# EAGLE library part APF3236SEEZGQBDC (library bytewerk-led)
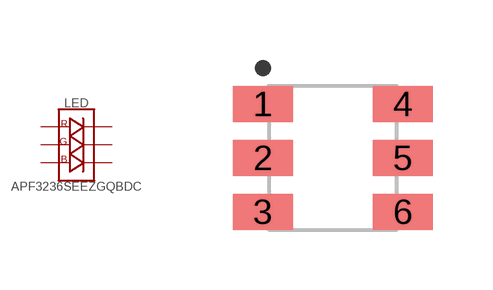
[diagram p2: symbol with the pads of APF3236SEEZGQBDC; footprint APF3236SEEZGQBDC]

Designator prefix LED

## APF3236SEEZGQBDC  [APF3236SEEZGQBDC]
1  R_C  pas
2  G_C  pas
3  B_C  pas
4  R_A  pas
5  G_A  pas
6  B_A  pas

## Footprint APF3236SEEZGQBDC (pad centres in mm)
smd 1.5 x 0.9: 1 -1.75,1.35; 2 -1.75,0; 3 -1.75,-1.35; 4 1.75,1.35; 5 1.75,0; 6 1.75,-1.35